# EAGLE library part ICSP (library usb-eeprom)
In Circuit Serial Programming
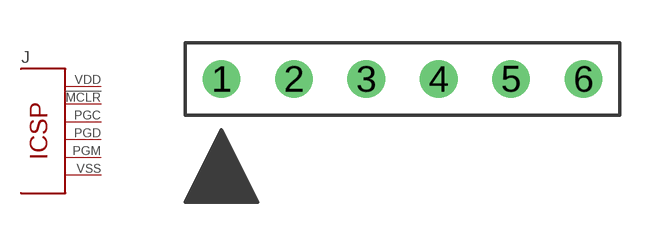
[diagram p1: symbol with the pads of ICSP; footprint ICSP]

Designator prefix J

## ICSP  [ICSP]
1  !MCLR  out
2  VDD  pwr
3  VSS  pwr
4  PGD
5  PGC
6  PGM

## Footprint ICSP (pad centres in mm)
In Circuit Serial Programming
drill 0.813: 1 -6.35,0; 2 -3.81,0; 3 -1.27,0; 4 1.27,0; 5 3.81,0; 6 6.35,0